# Altium footprint library rectifier.PCBLIB: 38 footprints (part 1 of 3)
Each footprint in its own frame and in the unit in brackets; x right, y up, seen from the top. Pads: shape width x height; smd on the part's side, far side on the other; paste and mask are expansions set on the pad; w line width, h text height; cw(c..) or ccw(c..) is an arc to the next point about the centre after c.
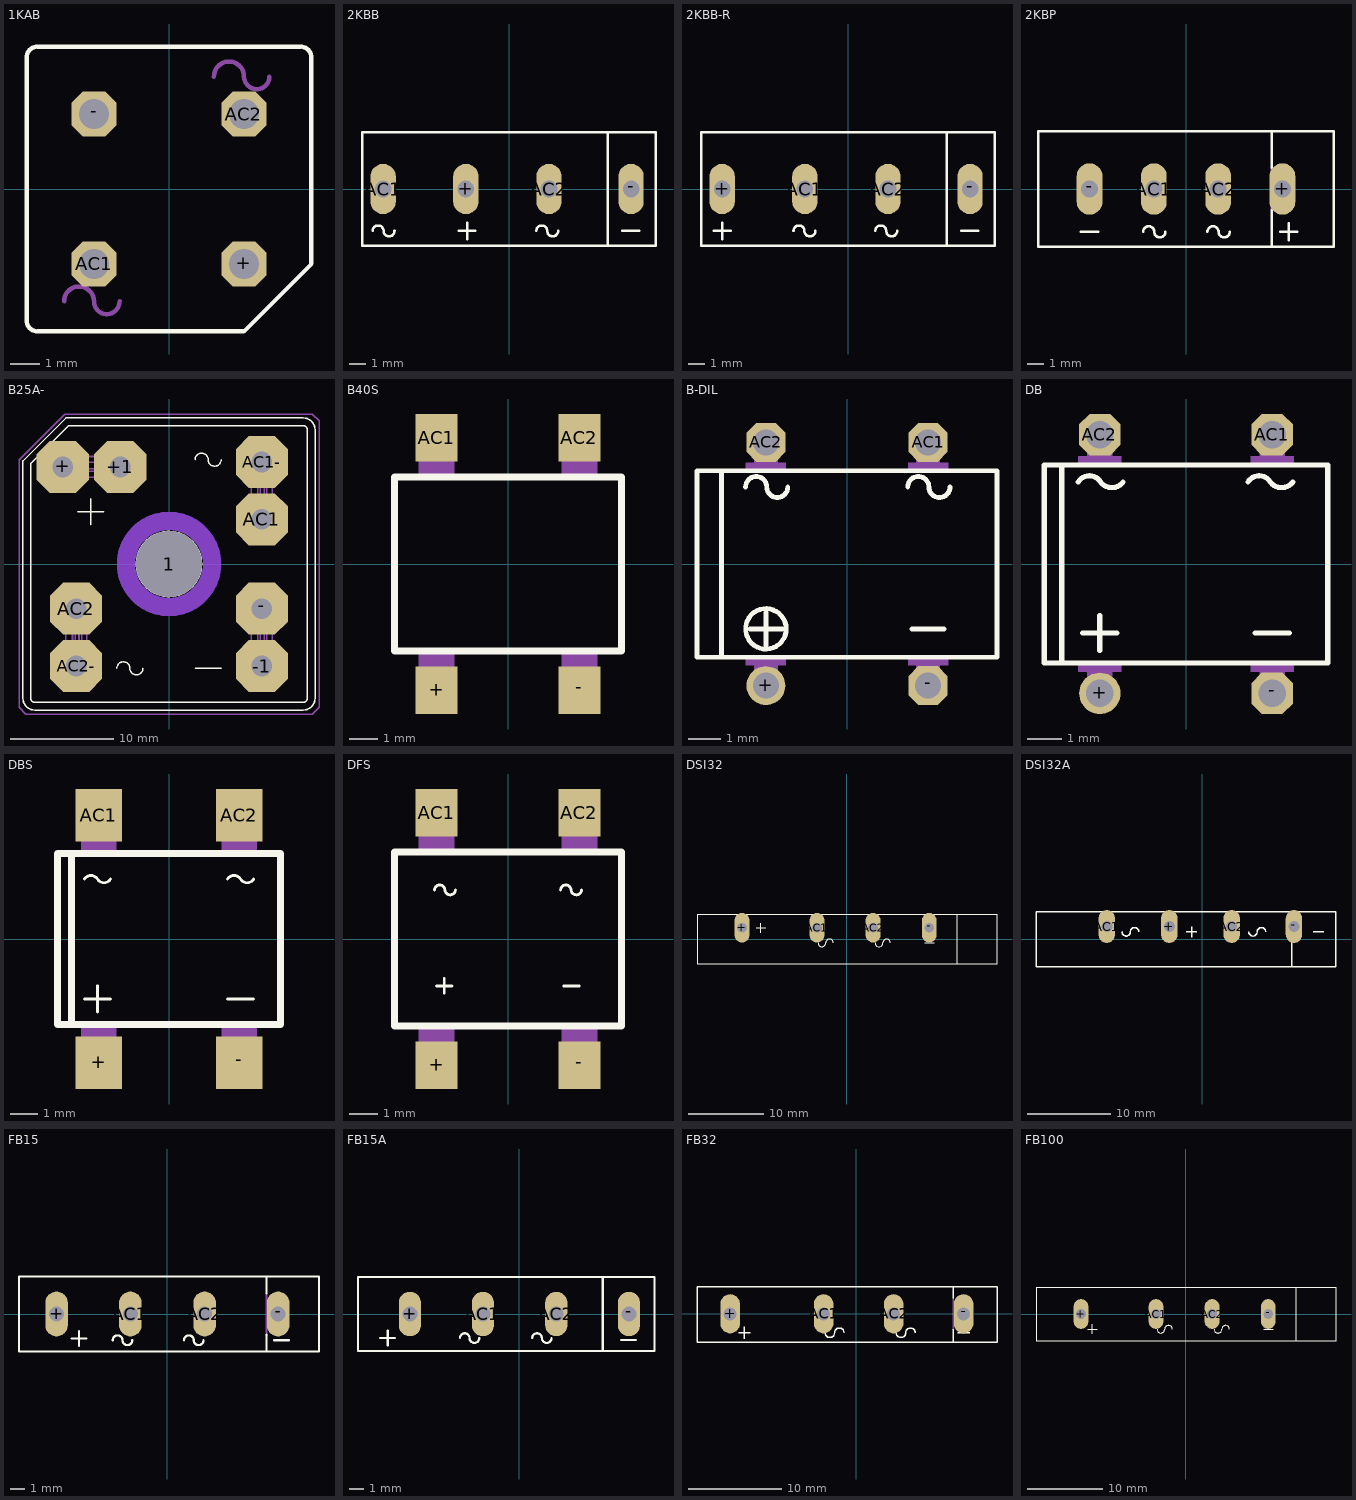
[diagram p0: the footprints below, top view; thin cyan lines are the x and y axes]

## 1KAB [mil]
pads (4):
  oct 60x60 hole 40: +(100,-100) -(-100,100) AC1(-100,-100) AC2(100,100)
Top Overlay:
  lines w6: -190,-175 ccw(c-175,-175) -175,-190 100,-190 190,-100 190,175 ccw(c175,175) 175,190 -175,190 ccw(c-175,175) -190,175 -190,-175
Mechanical 16:
  lines w6: -140,-150 cw(c-120,-150) -100,-150 ccw(c-83,-150) -66,-150 ; 60,150 cw(c80,150) 100,150 ccw(c117,150) 134,150
  text "+" at 50,-170 h77.5
  text "-" at -155,130 h77.5
Via Holes:
  rectangle: -200,-200 100,200
  rectangle: 100,-100 200,200
  rectangle: 100,-150 150,-100

## 2KBB [mil]
pads (4):
  oval 60x120 hole 40: +(-103,0) -(291,0) AC1(-300,0) AC2(95,0)
Top Overlay:
  lines w6: -325,-100 cw(c-312,-100) -299,-100 ccw(c-286,-100) -273,-100 ; -120,-100 -80,-100 ; -100,-120 -100,-80 ; 65,-100 cw(c78,-100) 91,-100 ccw(c104,-100) 117,-100 ; 270,-100 310,-100 ; 235,-135 235,135 ; 235,-135 -350,-135 -350,135 235,135 ; 235,-135 350,-135 350,135 235,135
Via Holes:
  rectangle: -355,-140 355,140

## 2KBB-R [mil]
pads (4):
  oval 60x120 hole 40: +(-300,0) -(291,0) AC1(-103,0) AC2(95,0)
Top Overlay:
  lines w6: -320,-100 -280,-100 ; -300,-120 -300,-80 ; -130,-100 cw(c-117,-100) -104,-100 ccw(c-91,-100) -78,-100 ; 65,-100 cw(c78,-100) 91,-100 ccw(c104,-100) 117,-100 ; 270,-100 310,-100 ; 235,-135 235,135 ; 235,-135 -350,-135 -350,135 235,135 ; 235,-135 350,-135 350,135 235,135
Via Holes:
  rectangle: -355,-140 355,140

## 2KBP [mil]
pads (4):
  oval 60x120 hole 40: +(225,0) -(-225,0) AC1(-75,0) AC2(75,0)
Top Overlay:
  lines w6: -245,-100 -205,-100 ; -100,-100 cw(c-87,-100) -74,-100 ccw(c-61,-100) -48,-100 ; 50,-100 cw(c63,-100) 76,-100 ccw(c89,-100) 102,-100 ; 200,-50 200,-135 ; 200,50 200,135 ; 220,-100 260,-100 ; 240,-120 240,-80 ; 200,-135 345,-135 345,135 200,135 ; 200,-135 -345,-135 -345,135 200,135
Mechanical 16:
  lines w6: 200,-50 200,50
Via Holes:
  rectangle: -350,-140 350,140

## B25A- [mil]
pads (9):
  round 252 hole 252: 1(0,0)
  oct 200x200 hole 79: +(-407,372) +1(-187,372) -(356,-171) -1(356,-391) AC1(356,171) AC1-(356,391) AC2(-356,-171) AC2-(-356,-391)
Top Layer keep-out:
  circle w70: c0,0 r165
Bottom Layer keep-out:
  circle w70: c0,0 r165
Top Overlay:
  circle w6: c0,0 r125
  lines w6: -350,200 -250,200 ; -300,150 -300,250 ; -200,-400 cw(c-175,-400) -150,-400 ccw(c-125,-400) -100,-400 ; 100,-400 200,-400 ; 100,400 cw(c125,400) 150,400 ccw(c175,400) 200,400 ; -560,-515 ccw(c-515,-515) -515,-560 515,-560 ccw(c515,-515) 560,-515 560,515 ccw(c515,515) 515,560 -395,560 -560,395 -560,-515 ; -530,-515 ccw(c-515,-515) -515,-530 515,-530 ccw(c515,-515) 530,-515 530,515 ccw(c515,515) 515,530 -385,530 -530,385 -530,-515
Top Solder:
  lines w209: -407,372 -187,372 ; -356,-391 -356,-171 ; 356,-391 356,-171 ; 356,171 356,391
Bottom Solder:
  lines w209: -407,372 -187,372 ; -356,-391 -356,-171 ; 356,-391 356,-171 ; 356,171 356,391
Mechanical 13:
  lines w6: -410,332 cw(c-410,372) -410,412 -185,412 cw(c-185,372) -185,332 -410,332 ; -395,-390 ccw(c-355,-390) -315,-390 -315,-170 ccw(c-355,-170) -395,-170 -395,-390 ; 315,-390 ccw(c355,-390) 395,-390 395,-165 ccw(c355,-165) 315,-165 315,-390 ; 315,170 ccw(c355,170) 395,170 395,395 ccw(c355,395) 315,395 315,170
  text "Ý6,4" at -125,-225 h108.5
  text "4 x long" at 675,-175 h108.5
Mechanical 16:
  lines w6: -420,355 -170,355 ; -420,355 -420,390 ; -420,355 -410,365 ; -420,355 -435,355 -435,390 -420,390 ; -420,390 -170,390 ; -420,390 -410,380 -410,365 ; -410,365 -180,365 ; -370,-405 -370,-155 ; -370,-405 -335,-405 ; -370,-405 -360,-395 ; -370,-405 -370,-420 -335,-420 -335,-405 ; -370,-155 -335,-155 ; -370,-155 -360,-165 ; -370,-155 -370,-140 -335,-140 -335,-155 ; -360,-395 -360,-165 ; -360,-395 -345,-395 ; -360,-165 -345,-165 ; -345,-395 -335,-405 ; -345,-395 -345,-165 ; -345,-165 -335,-155 ; -335,-405 -335,-155 ; -180,365 -170,355 ; -180,365 -180,380 -170,390 ; -170,355 -170,390 ; -170,355 -155,355 -155,390 -170,390 ; 340,-405 340,-155 ; 340,-405 375,-405 ; 340,-405 350,-395 ; 340,-405 340,-420 375,-420 375,-405 ; 340,-155 375,-155 ; 340,-155 350,-165 ; 340,-155 340,-140 375,-140 375,-155 ; 340,155 340,405 ; 340,155 375,155 ; 340,155 350,165 ; 340,155 340,140 375,140 375,155 ; 340,405 375,405 ; 340,405 350,395 ; 340,405 340,420 375,420 375,405 ; 350,-395 350,-165 ; 350,-395 365,-395 ; 350,-165 365,-165 ; 350,165 350,395 ; 350,165 365,165 ; 350,395 365,395 ; 365,-395 375,-405 ; 365,-395 365,-165 ; 365,-165 375,-155 ; 365,165 375,155 ; 365,165 365,395 ; 365,395 375,405 ; 375,-405 375,-155 ; 375,155 375,405
Via Holes:
  rectangle: -575,-575 575,575
Mechanical 27:
  lines w5: -575,-550 -550,-575 550,-575 575,-550 575,550 550,575 -400,575 -575,400 -575,-550

## B40S [mil]
pads (4):
  rect 59.06x66.93 smd: +(-100.39,-177.17) -(100.39,-177.17) AC1(-100.39,177.17) AC2(100.39,177.17)
Top Overlay:
  lines w10: -159.45,-122.05 159.45,-122.05 159.45,122.05 -159.45,122.05 -159.45,-122.05
Mechanical 16:
  rectangle: -125.98,-200.79 -74.8,-125.98
  rectangle: 74.8,-200.79 125.98,-125.98
  region: 125.98,200.79 74.8,200.79 74.8,125.98 125.98,125.98
  region: -74.8,200.79 -125.98,200.79 -125.98,125.98 -74.8,125.98

## B-DIL [mil]
pads (4):
  round 48 hole 32: +(-100,-150)
  oct 48x48 hole 32: -(100,-150) AC1(100,150) AC2(-100,150)
Top Overlay:
  circle w6: c-100,-80 r25
  lines w6: -125,95 cw(c-112,95) -99,95 ccw(c-86,95) -73,95 ; -120,-80 -80,-80 ; -100,-100 -100,-60 ; 75,95 cw(c88,95) 101,95 ccw(c114,95) 127,95 ; 80,-80 120,-80 ; -155,-115 -185,-115 -185,115 -155,115 ; -155,-115 -155,115 ; -155,-115 185,-115 185,115 -155,115
Mechanical 16:
  rectangle: -115,-150 -85,-115
  rectangle: 85,-150 115,-115
  rectangle: 85,115 115,150
  rectangle: -115,115 -85,150
  rectangle: -125,-125 -75,-115
  rectangle: 75,-125 125,-115
  rectangle: 75,115 125,125
  rectangle: -125,115 -75,125
Via Holes:
  rectangle: -175,-125 175,125

## DB [mil]
pads (4):
  round 48 hole 32: +(-100,-150)
  oct 48x48 hole 32: -(100,-150) AC1(100,150) AC2(-100,150)
Top Overlay:
  lines w6: -125,95 cw(c-112,87.41) -99,95 ccw(c-86,104.76) -73,95 ; -120,-80 -80,-80 ; -100,-100 -100,-60 ; 71.85,95 cw(c84.85,87.41) 97.85,95 ccw(c110.85,104.76) 123.85,95 ; 80,-80 120,-80 ; -144.17,-115 -164.33,-115 -164.33,115 -144.17,115 ; -144.17,-115 -144.17,115 ; -144.17,-115 164.33,-115 164.33,115 -144.17,115
Mechanical 16:
  rectangle: -115,-150 -85,-115
  rectangle: 85,-150 115,-115
  rectangle: 85,115 115,150
  rectangle: -115,115 -85,150
  rectangle: -125,-125 -75,-115
  rectangle: 75,-125 125,-115
  rectangle: 75,115 125,125
  rectangle: -125,115 -75,125

## DBS [mil]
pads (4):
  rect 66.93x74.8 smd: +(-100.39,-177.17) -(100.39,-177.17) AC1(-100.39,177.17) AC2(100.39,177.17)
Top Overlay:
  lines w4: -121.06,-85.63 -83.66,-85.63 ; -121.06,85.63 cw(c-111.71,79.82) -102.36,85.63 ccw(c-93.01,91.44) -83.66,85.63 ; -102.36,-104.33 -102.36,-66.93 ; 83.66,-85.63 121.06,-85.63 ; 83.66,85.63 cw(c93.01,79.82) 102.36,85.63 ccw(c111.71,91.44) 121.06,85.63
  lines w10: -139.76,122.05 -139.76,-122.05 ; -139.76,-122.05 159.45,-122.05 159.45,122.05 -159.45,122.05 -159.45,-122.05 -139.76,-122.05
Mechanical 16:
  rectangle: -125.98,-200.79 -74.8,-125.98
  rectangle: 74.8,-200.79 125.98,-125.98
  region: 125.98,200.79 74.8,200.79 74.8,125.98 125.98,125.98
  region: -74.8,200.79 -125.98,200.79 -125.98,125.98 -74.8,125.98

## DFS [mil]
pads (4):
  rect 59.06x66.93 smd: +(-100.39,-177.17) -(100.39,-177.17) AC1(-100.39,177.17) AC2(100.39,177.17)
Top Overlay:
  lines w4: -103.35,68.9 cw(c-95.97,68.41) -88.58,68.9 ccw(c-81.2,69.39) -73.82,68.9 ; -100.39,-65.94 -78.74,-65.94 ; -89.57,-75.79 -89.57,-55.12 ; 73.82,68.9 cw(c81.2,68.41) 88.58,68.9 ccw(c95.97,69.39) 103.35,68.9 ; 78.35,-65.94 100,-65.94
  lines w10: -159.45,-122.05 159.45,-122.05 159.45,122.05 -159.45,122.05 -159.45,-122.05
Mechanical 16:
  rectangle: -125.98,-200.79 -74.8,-125.98
  rectangle: 74.8,-200.79 125.98,-125.98
  region: 125.98,200.79 74.8,200.79 74.8,125.98 125.98,125.98
  region: -74.8,200.79 -125.98,200.79 -125.98,125.98 -74.8,125.98

## DSI32 [mil]
pads (4):
  oval 78x156 hole 52: +(-551.18,59.06) -(432.82,59.06) AC1(-157.18,59.06) AC2(137.82,59.06)
Top Overlay:
  lines w6: -476.18,59.06 -426.18,59.06 ; -451.18,34.06 -451.18,84.06 ; -151.18,-20.94 ccw(c-131.18,-20.94) -111.18,-20.94 cw(c-91.18,-20.94) -71.18,-20.94 ; 148.82,-20.94 ccw(c168.82,-20.94) 188.82,-20.94 cw(c208.82,-20.94) 228.82,-20.94 ; 408.82,-20.94 458.82,-20.94 ; 578.82,-130.94 -786.18,-130.94 -786.18,129.06 578.82,129.06 ; 578.82,-130.94 578.82,129.06 ; 578.82,-130.94 788.82,-130.94 788.82,129.06 578.82,129.06
Via Holes:
  rectangle: -787.4,-137.8 787.4,137.8

## DSI32A [mil]
pads (4):
  oval 78x156 hole 52: +(-156.76,59.06) -(433.24,59.06) AC1(-452.76,59.06) AC2(138.24,59.06)
Top Overlay:
  lines w6: -380.76,34.06 ccw(c-360.76,34.06) -340.76,34.06 cw(c-320.76,34.06) -300.76,34.06 ; -75.75,34.06 -25.75,34.06 ; -50.75,9.06 -50.75,59.06 ; 219.24,34.06 ccw(c239.24,34.06) 259.24,34.06 cw(c279.24,34.06) 299.24,34.06 ; 422.24,-15.94 422.24,-130.94 ; 524.25,34.06 574.25,34.06 ; 422.24,-130.94 632.24,-130.94 632.24,129.06 -787.76,129.06 -787.76,-130.94 422.24,-130.94
Mechanical 16:
  lines w6: 422.24,-15.94 422.24,129.06
Via Holes:
  rectangle: -787.4,-137.8 629.92,137.8

## FB15 [mil]
pads (4):
  oval 60x120 hole 40: +(-295.28,0) -(295.72,0) AC1(-98.28,0) AC2(99.72,0)
Top Overlay:
  lines w6: -255.28,-65 -215.28,-65 ; -235.28,-85 -235.28,-45 ; -145.28,-70 cw(c-132.28,-70) -119.28,-70 ccw(c-106.28,-70) -93.28,-70 ; 44.72,-70 cw(c57.72,-70) 70.72,-70 ccw(c83.72,-70) 96.72,-70 ; 264.72,-55 264.72,-100 ; 264.72,55 264.72,100 ; 284.72,-70 324.72,-70 ; 264.72,-100 404.72,-100 404.72,100 264.72,100 ; 264.72,-100 -395.28,-100 -395.28,100 264.72,100
Mechanical 16:
  lines w6: 264.72,-55 264.72,55
Via Holes:
  rectangle: -393.7,-98.43 393.7,98.43

## FB15A [mil]
pads (4):
  oval 60x120 hole 40: +(-295.28,0) -(295.72,0) AC1(-98.28,0) AC2(99.72,0)
Top Overlay:
  lines w6: -375.28,-65 -335.28,-65 ; -355.28,-85 -355.28,-45 ; -160.28,-65 cw(c-147.28,-65) -134.28,-65 ccw(c-121.28,-65) -108.28,-65 ; 34.72,-65 cw(c47.72,-65) 60.72,-65 ccw(c73.72,-65) 86.72,-65 ; 274.72,-70 314.72,-70 ; 224.72,-100 364.72,-100 364.72,100 224.72,100 ; 224.72,-100 -435.28,-100 -435.28,100 224.72,100 ; 224.72,-100 224.72,100
Via Holes:
  rectangle: -433.07,-98.43 374.02,98.43

## FB32 [mil]
pads (4):
  oval 82.5x165 hole 55: +(-531.5,0) -(452.5,0) AC1(-137.5,0) AC2(157.5,0)
Top Overlay:
  lines w6: -496.5,-80 -446.5,-80 ; -471.5,-105 -471.5,-55 ; -131.5,-80 ccw(c-111.5,-80) -91.5,-80 cw(c-71.5,-80) -51.5,-80 ; 168.5,-80 ccw(c188.5,-80) 208.5,-80 cw(c228.5,-80) 248.5,-80 ; 408.5,-65 408.5,-120 ; 408.5,65 408.5,115 ; 428.5,-80 478.5,-80 ; 408.5,-120 -671.5,-120 -671.5,115 408.5,115 ; 408.5,-120 593.5,-120 593.5,115 408.5,115
Mechanical 16:
  lines w6: 408.5,-65 408.5,65
Via Holes:
  rectangle: -669.29,-118.11 590.55,118.11

## FB100 [mil]
pads (4):
  oval 78x156 hole 52: +(-551.18,0) -(432.82,0) AC1(-157.18,0) AC2(137.82,0)
Top Overlay:
  lines w6: -516.18,-80 -466.18,-80 ; -491.18,-105 -491.18,-55 ; -151.18,-80 ccw(c-131.18,-80) -111.18,-80 cw(c-91.18,-80) -71.18,-80 ; 148.82,-80 ccw(c168.82,-80) 188.82,-80 cw(c208.82,-80) 228.82,-80 ; 408.82,-80 458.82,-80 ; 578.82,-140 -786.18,-140 -786.18,140 578.82,140 ; 578.82,-140 578.82,140 ; 578.82,-140 788.82,-140 788.82,140 578.82,140
Via Holes:
  rectangle: -787.4,-137.8 787.4,137.8